# Altium footprint library 1206RES.PcbLib: 1 footprints
Each footprint in its own frame and in the unit in brackets; x right, y up, seen from the top. Pads: shape width x height; smd on the part's side, far side on the other; paste and mask are expansions set on the pad; w line width, h text height; cw(c..) or ccw(c..) is an arc to the next point about the centre after c.
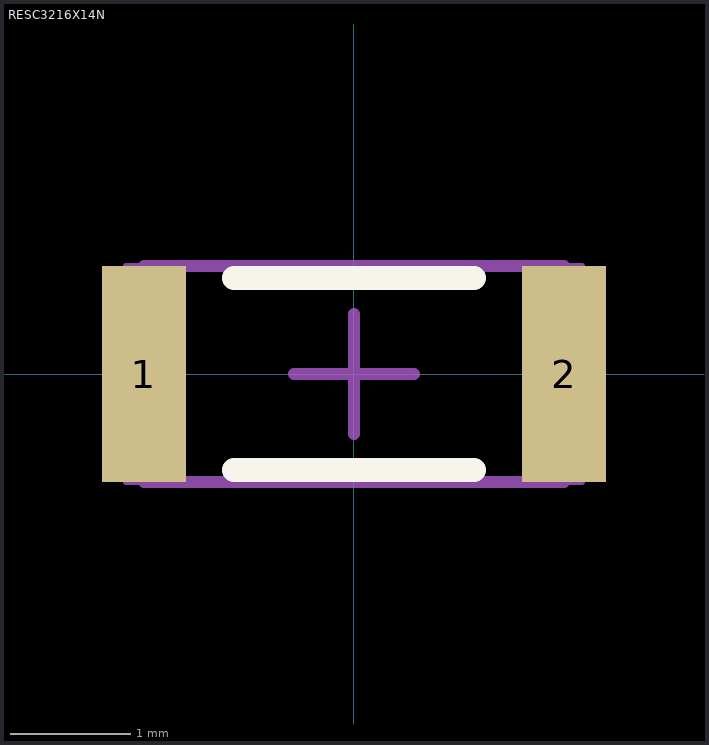
[diagram p0: the footprint, top view; thin cyan lines are the x and y axes]

## RESC3216X14N [mm] "Chip Resistor, 2-Leads, Body 3,25x1,65mm, IPC Medium Density"
height 1.45
pads (2):
  rect 0.7x1.8 smd: 1(-1.75,0) 2(1.75,0)
Top Overlay:
  lines w0.2: -1,-0.8 1,-0.8 ; -1,0.8 1,0.8
Mechanical 3:
  lines w0.05: -1.9,-0.9 1.9,-0.9 1.9,0.9 -1.9,0.9 -1.9,-0.9
  lines w0.1: -0.5,0 0.5,0 ; 0,-0.5 0,0.5
Mechanical 13:
  lines w0.1: -1.75,-0.9 1.75,-0.9 1.75,0.9 -1.75,0.9 -1.75,-0.9
3D body: height 1.45, standoff 0, extent 1.65,-0.9 1.75,0.9
3D body: height 1.45, standoff 0, extent -1.75,-0.9 -1.65,0.9
3D body: height 1.45, standoff 0, extent -1.65,-0.9 1.65,0.9